# EAGLE library part RX5808 (library hi-link)
Boscam FPV 5.8G Wireless Audio Video Receiving Module RX5808 Specification: Brand Name: Boscam Item Name: RX5808 Receiving Module Receiver Frequency: 5645-5945MHz; 8channels Receiving Sensitivity: -90dBm Frequency Control: built-in frequency and phase lock loop AV Output : analog AV signal output Power Supply voltage: 3.5V Supply Current: 170mA Dimension: 28 x 23 x 3mm
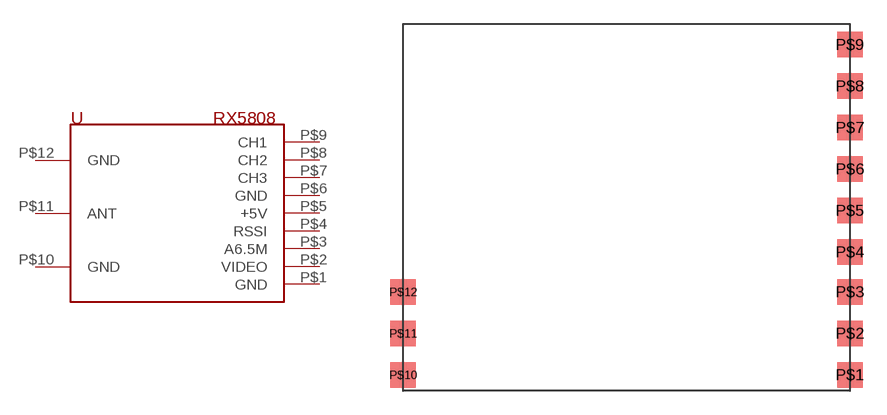
[diagram p0: symbol with the pads of RX5808; footprint RX5808]

Designator prefix -

## RX5808  [RX5808]
P$1  GND
P$2  VIDEO
P$3  A6.5M
P$4  RSSI
P$5  +5V
P$6  GND
P$7  CH3
P$8  CH2
P$9  CH1
P$10  GND
P$11  ANT
P$12  GND

## Footprint RX5808 (pad centres in mm)
smd 1.6 x 1.6: P$1 14,-11; P$2 14,-8.4; P$3 14,-5.8; P$4 14,-3.3; P$5 14,-0.7; P$6 14,1.9; P$7 14,4.5; P$8 14,7.1; P$9 14,9.7; P$10 -14,-11; P$11 -14,-8.4; P$12 -14,-5.8